# EAGLE library part INA170 (library myLib)
IC CURRENT MONITOR 2% 8VSSOP
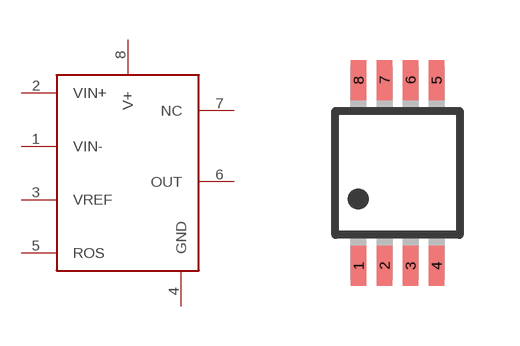
[diagram p18: symbol with the pads of INA170; footprint INA170]

Designator prefix -

## INA170  [INA170]
1  VIN-
2  VIN+
3  VREF
4  GND
5  ROS
6  OUT
7  NC
8  V+

## Footprint INA170 (pad centres in mm)
IC CURRENT MONITOR 2% 8VSSOP
smd 0.38 x 1: 1 -0.975,-2.32; 2 -0.325,-2.32; 3 0.325,-2.32; 4 0.975,-2.32; 5 0.975,2.32; 6 0.325,2.32; 7 -0.325,2.32; 8 -0.975,2.32